# Altium footprint library DSUB.PCBLIB: 2 footprints
Each footprint in its own frame and in the unit in brackets; x right, y up, seen from the top. Pads: shape width x height; smd on the part's side, far side on the other; paste and mask are expansions set on the pad; w line width, h text height; cw(c..) or ccw(c..) is an arc to the next point about the centre after c.
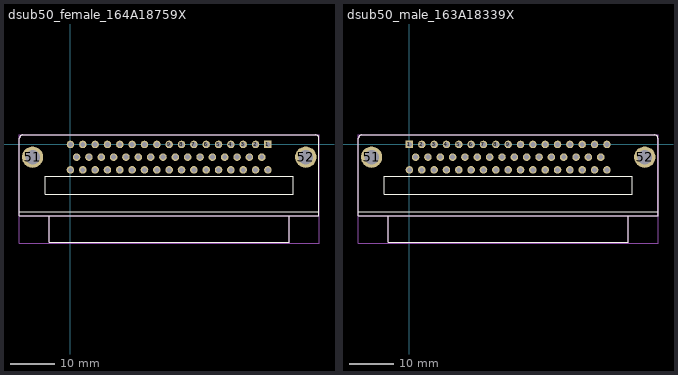
[diagram p0: the footprints below, top view; thin cyan lines are the x and y axes]

## dsub50_female_164A18759X [mm]
height 1.08
pads (52):
  rect 1.69x1.69 hole 1.09: 1(44.176,0)
  round 1.69 hole 1.09: 2(41.415,0) 3(38.654,0) 4(35.893,0) 5(33.132,0) 6(30.371,0) 7(27.61,0) 8(24.849,0) 9(22.088,0) 10(19.327,0) 11(16.566,0) 12(13.805,0) 13(11.044,0) 14(8.283,0) 15(5.522,0) 16(2.761,0) 17(0,0) 18(42.795,-2.84) 19(40.035,-2.84) 20(37.274,-2.84) 21(34.512,-2.84) 22(31.752,-2.84) 23(28.99,-2.84) 24(26.23,-2.84) 25(23.469,-2.84) 26(20.707,-2.84) 27(17.947,-2.84) 28(15.185,-2.84) 29(12.425,-2.84) 30(9.664,-2.84) 31(6.902,-2.84) 32(4.142,-2.84) 33(1.38,-2.84) 34(44.176,-5.68) 35(41.415,-5.68) 36(38.654,-5.68) 37(35.893,-5.68) 38(33.132,-5.68) 39(30.371,-5.68) 40(27.61,-5.68) 41(24.849,-5.68) 42(22.088,-5.68) 43(19.327,-5.68) 44(16.566,-5.68) 45(13.805,-5.68) 46(11.044,-5.68) 47(8.283,-5.68) 48(5.522,-5.68) 49(2.761,-5.68) 50(0,-5.68)
  round 4.76 hole 3.26: 51(-8.467,-2.84) 52(52.643,-2.84)
Top Overlay:
  lines w0.2: -11.4,-15.08 55.6,-15.08 ; -11.4,1.42 -11.4,-15.98 55.6,-15.98 55.6,1.42 ; -11.395,1.425 cw(c-10.7,1.425) -10.7,2.12 54.9,2.12 cw(c54.9,1.425) 55.595,1.425 ; -4.78,-15.98 -4.78,-21.9 48.98,-21.9 48.98,-15.98 ; -5.6,-11.1 -5.6,-7.1 49.8,-7.1 49.8,-11.1 -5.6,-11.1
Top Assembly:
  lines w0.2: -11.4,1.42 -11.4,-15.98 55.6,-15.98 55.6,1.42 ; -11.395,1.425 cw(c-10.7,1.425) -10.7,2.12 54.9,2.12 cw(c54.9,1.425) 55.595,1.425 ; -4.78,-15.98 -4.78,-21.9 48.98,-21.9 48.98,-15.98
  text ".Designator" at 13,-9.6 h1.52
Top Courtyard:
  lines w0.05: -11.5,-22.1 55.6,-22.1 55.6,2.18 -11.5,2.18 -11.5,-22.1
3D body "164A18759X.stp": height 16.35, standoff -3.86, extent -11.425,-22.048 55.575,2.132

## dsub50_male_163A18339X [mm]
pads (52):
  rect 1.69x1.69 hole 1.09: 1(0,0)
  round 1.69 hole 1.09: 2(2.761,0) 3(5.522,0) 4(8.283,0) 5(11.044,0) 6(13.805,0) 7(16.566,0) 8(19.327,0) 9(22.088,0) 10(24.849,0) 11(27.61,0) 12(30.371,0) 13(33.132,0) 14(35.893,0) 15(38.654,0) 16(41.415,0) 17(44.176,0) 18(1.381,-2.84) 19(4.142,-2.84) 20(6.903,-2.84) 21(9.664,-2.84) 22(12.425,-2.84) 23(15.186,-2.84) 24(17.946,-2.84) 25(20.707,-2.84) 26(23.469,-2.84) 27(26.23,-2.84) 28(28.991,-2.84) 29(31.752,-2.84) 30(34.512,-2.84) 31(37.273,-2.84) 32(40.034,-2.84) 33(42.795,-2.84) 34(0,-5.68) 35(2.761,-5.68) 36(5.522,-5.68) 37(8.283,-5.68) 38(11.044,-5.68) 39(13.805,-5.68) 40(16.566,-5.68) 41(19.327,-5.68) 42(22.088,-5.68) 43(24.849,-5.68) 44(27.61,-5.68) 45(30.371,-5.68) 46(33.132,-5.68) 47(35.893,-5.68) 48(38.654,-5.68) 49(41.415,-5.68) 50(44.176,-5.68)
  round 4.76 hole 3.26: 51(-8.467,-2.84) 52(52.643,-2.84)
Top Overlay:
  lines w0.2: -11.4,-15.08 55.6,-15.08 ; -11.4,1.42 -11.4,-15.98 55.6,-15.98 55.6,1.42 ; -11.395,1.425 cw(c-10.7,1.425) -10.7,2.12 54.9,2.12 cw(c54.9,1.425) 55.595,1.425 ; -4.78,-15.98 -4.78,-21.9 48.98,-21.9 48.98,-15.98 ; -5.6,-11.1 49.8,-11.1 49.8,-7.1 -5.6,-7.1 -5.6,-11.1
Top Assembly:
  lines w0.2: -11.4,1.42 -11.4,-15.98 55.6,-15.98 55.6,1.42 ; -11.395,1.425 cw(c-10.7,1.425) -10.7,2.12 54.9,2.12 cw(c54.9,1.425) 55.595,1.425 ; -4.78,-15.98 -4.78,-21.9 48.98,-21.9 48.98,-15.98
Top Courtyard:
  lines w0.05: -11.5,-22.1 -11.5,2.18 55.6,2.18 55.6,-22.1 -11.5,-22.1
Top Designator:
  text ".Designator" at 18.928,-6.842 h1.52
3D body "163A18339X.stp": height 16.34, standoff -3.97, extent -11.425,-21.988 55.575,2.112